# Altium schematic symbol library SW_SPST_1.SchLib: 1 symbol
Pins are listed as number, name and electrical type; pins without a type are passive.

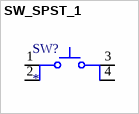
[diagram p0: symbol SW_SPST_1]

## SW_SPST_1
designator SW?
pins: 1, 2, 3, 4